# Altium schematic symbol library 声源跟踪小车原理图库.SCHLIB: 29 symbols
Pins are listed as number, name and electrical type; pins without a type are passive.

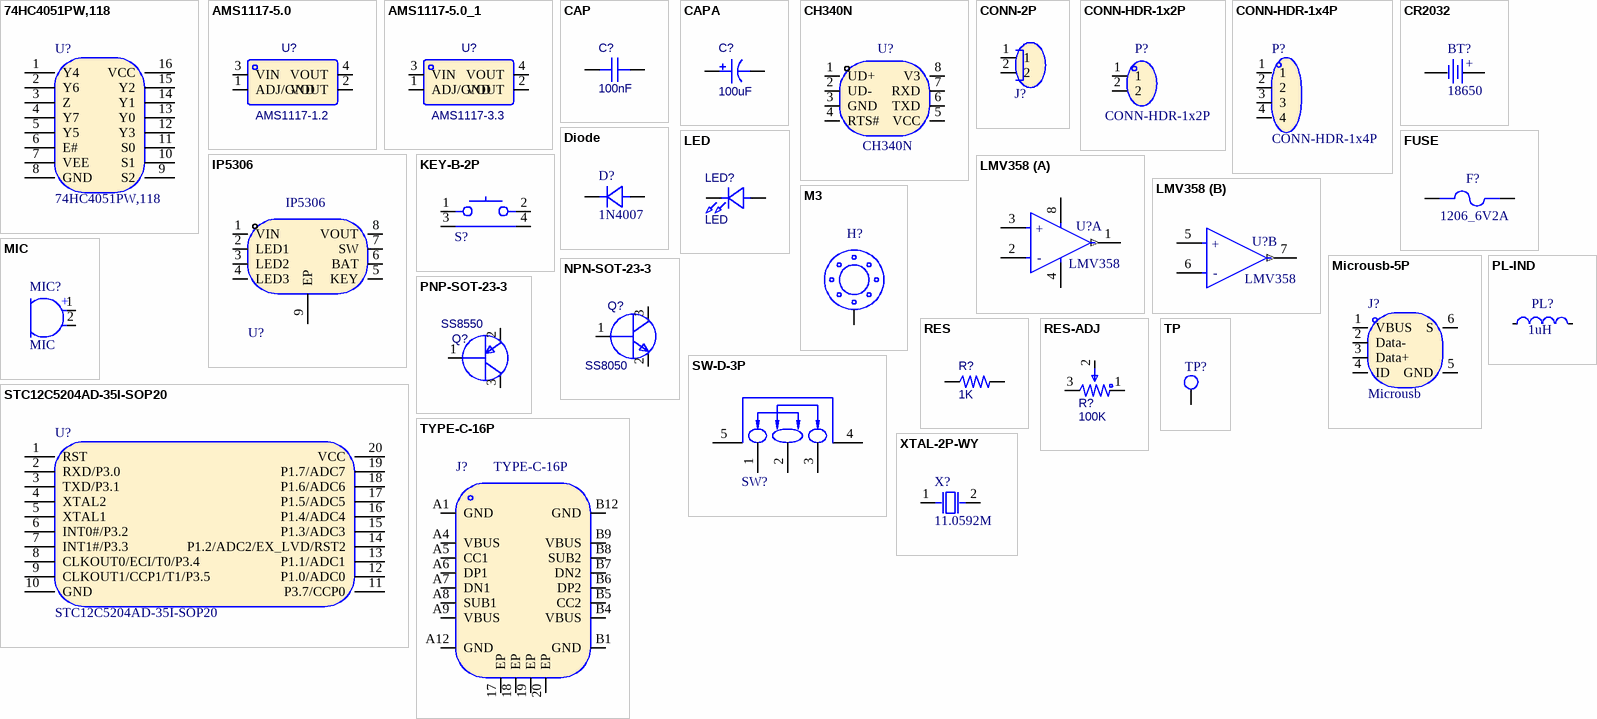
[diagram p0: symbols 74HC4051PW,118 to XTAL-2P-WY]

## 74HC4051PW,118
designator U?
复用开关IC MUX/DEMUX 8X1; Manufacturer: Nexperia(安世); Add into BOM: yes; Name: 74HC4051PW,118; Symbol: 74HC4051PW,118; Device: 74HC4051PW,118; LCSC Part Name: 74HC4051PW,118; Supplier Part: C5645; Manufacturer Part: 74HC4051PW,118; Supplier Footprint: TSSOP-16; JLCPCB Part Class: 扩展库; Datasheet: https://atta.szlcsc.com/upload/public/pdf/source/20120413/1457706470089.pdf; Supplier: LCSC; Convert to PCB: yes
footprint TSSOP-16-LP5.7-P0.65 (TSSOP-16_L5.0-W4.4-P0.65-LS6.4-BL)
pins: 1 Y4, 2 Y6, 3 Z, 4 Y7, 5 Y5, 6 E#, 7 VEE, 8 GND, 9 S2, 10 S1, 11 S0, 12 Y3, 13 Y0, 14 Y1, 15 Y2, 16 VCC

## AMS1117-5.0
designator U?, comment AMS1117-1.2
稳压器芯片; BOM_Manufacturer: JSMSEMI(杰盛微); BOM_Manufacturer Part: AMS1117-5.0; Contributor: LCSC; BOM_Supplier: LCSC; BOM_Supplier Part: C2718490; BOM_JLCPCB Part Class: Extended Part; spicePre: U; spiceSymbolName: AMS1117-5.0_C2718490
footprint SOT-223-4-LP5.7-P2.3 (SOT-223-4_L6.5-W3.5-P2.30-LS7.0-BR)
pins: 1 ADJ/GND, 2 VOUT, 3 VIN, 4 VOUT

## AMS1117-5.0_1
designator U?, comment AMS1117-3.3
稳压器芯片; BOM_Manufacturer: JSMSEMI(杰盛微); BOM_Manufacturer Part: AMS1117-5.0; Contributor: LCSC; BOM_Supplier: LCSC; BOM_Supplier Part: C2718490; BOM_JLCPCB Part Class: Extended Part; spicePre: U; spiceSymbolName: AMS1117-5.0_C2718490
footprint SOT-223-4-LP5.7-P2.3 (SOT-223-4_L6.5-W3.5-P2.30-LS7.0-BR)
pins: 1 ADJ/GND, 2 VOUT, 3 VIN, 4 VOUT

## CAP
designator C?, comment 100nF
贴片电容; BOM_Manufacturer: SAMSUNG; BOM_Manufacturer Part: CL03A104KQ3NNNC; nameAlias: Capacitance; Contributor: LCSC; BOM_Supplier: LCSC; BOM_Supplier Part: C160831; BOM_JLCPCB Part Class: Extended Part; spicePre: C; spiceSymbolName: CL03A104KQ3NNNC
footprint CAP-SMD-0603 (贴片电容0603)
pins: 1, 2

## CAPA
designator C?, comment 100uF
电解电容; BOM_Manufacturer: ValuePro; BOM_Manufacturer Part: 普通黑色470UF 50V; nameAlias: Capacitance; BOM_Supplier: LCSC; BOM_Supplier Part: C34642; BOM_JLCPCB Part Class: Extended Part; spicePre: C; spiceSymbolName: 470UF 50V
footprint CAPA-TH-5020-P2.0 (插件电解电容CAP-TH_BD5.0-P2.00-D0.8-FD)
pins: 1, 2

## CH340N
designator U?
Manufacturer: WCH(南京沁恒); Symbol: CH340N_C2977777; Add into BOM: yes; Name: CH340N; Device: CH340N; LCSC Part Name: CH340N; Supplier Part: C2977777; Manufacturer Part: CH340N; Supplier Footprint: SOP-8; JLCPCB Part Class: 扩展库; Datasheet: https://atta.szlcsc.com/upload/public/pdf/source/20220223/82A45E4FF89B3EDCAD50B354450A7EF4.pdf; Supplier: LCSC; Convert to PCB: yes
3D model SOP-8_L4.9-W3.9-P1.27-LS6.0-BL-1
footprint SOP-8-LP5.3-P1.27 (SOP-8_L4.9-W3.9-P1.27-LS6.0-BL)
pins: 1 UD+, 2 UD-, 3 GND, 4 RTS#, 5 VCC, 6 TXD, 7 RXD, 8 V3

## CONN-2P
designator J?  (value not drawn)
连接插座2pin; Manufacturer: KEFA(科发); Symbol: KF301-5.0-2P; Add into BOM: yes; Pitch: 5mm; Number of PINs Per Row: 2; Current Rating (Max): 17A; Voltage Rating (Max): 250V; Wire Gauge - AWG: 14~22; Wire Gauge - mm?: 1.5; Device: KF301-5.0-2P; LCSC Part Name: 5mm 排数:1 每排P数:2 直针 可拼接 铜 环保; Supplier Part: C474881; Manufacturer Part: KF301-5.0-2P; Supplier Footprint: P=5mm; JLCPCB Part Class: Extended Part; Datasheet: https://atta.szlcsc.com/upload/public/pdf/source/20200115/C474881_883EFE2003339C40FD1BEEEFC9A18423.pdf; Supplier: LCSC; Convert to PCB: yes; Number of Rows: 1; Mounting Style: 直针; Operating Temperature Range: -30~+120; Color: 蓝色
footprint CONN-TH-CDS-1x2P-P2.54 (CONN-TH_2P-P2.54_CDS-2P)
pins: 1, 2

## CONN-HDR-1x2P
designator P?
排针1*2pin; Manufacturer: kinghelm(金航标); Symbol: KH-2.54PH180-1X2P-L11.5; Add into BOM: yes; Pitch: 2.54mm; Pin Structure: 1x2P; Circluar Pins/Square Pins: 方针; Current Rating (Max): 3A; Device: KH-2.54PH180-1X2P-L11.5; LCSC Part Name: 2.54mm 1x2P; Supplier Part: C2905434; Manufacturer Part: KH-2.54PH180-1X2P-L11.5; Supplier Footprint: 插件,P=2.54mm; JLCPCB Part Class: Extended Part; Datasheet: https://atta.szlcsc.com/upload/public/pdf/source/20211019/75EAF9E0823F75B5BB441C07BAE9F5E6.pdf; Supplier: LCSC; Convert to PCB: yes; Number of Pins: 2; Number of Rows: 1; Row Spacing: -; Mounting Type: 直插; Voltage Rating (Max): -; Length of Mating Pin: 6mm; Insulation Height: 2.5mm; Length of End Connection Pin: 3mm; Contact Material: -; Operating Temperature Range: -40~+105; Color: 黑色
footprint CONN-TH-1X2P-P2.54 (HDR-TH_2P-P2.54-V-M)
pins: 1, 2

## CONN-HDR-1x4P
designator P?
排针1*4pin; Manufacturer: Wcon(维峰电子); Symbol: 1125-1104G0S116C001; Add into BOM: yes; Pitch: 2.54mm; Pin Structure: 1x4P; Circluar Pins/Square Pins: 方针; Current Rating (Max): 3A; Voltage Rating (Max): 320V; Device: 1125-1104G0S116C001; LCSC Part Name: 2.54mm 1x4P; Supplier Part: C920779; Manufacturer Part: 1125-1104G0S116C001; Supplier Footprint: 插件,P=2.54mm; JLCPCB Part Class: Extended Part; Datasheet: https://atta.szlcsc.com/upload/public/pdf/source/20210514/C920781_63E6ED3EFA6284A9B57E07350A5F58E4.pdf; Supplier: LCSC; Convert to PCB: yes; Number of Pins: 4; Number of Rows: 1; Row Spacing: 2.54mm; Mounting Type: 直插; Length of Mating Pin: 6.1mm; Insulation Height: 2.5mm; Length of End Connection Pin: 3mm; Contact Material: 黄铜; Contact Plating: 金; Operating Temperature Range: -40~+105; Color: 黑色
footprint CONN-TH-1X4P-P2.54 (HDR-TH_4P-P2.54-V-M-1)
pins: 1, 2, 3, 4

## CR2032
designator BT?, comment 18650
纽扣电池CR2032-BS-6-1; Manufacturer: Q&J; Add into BOM: yes; Connector Type: 电池底座; Battery Type: CR2032; Symbol: CR2032-BS-6-1; Device: CR2032-BS-6-1; LCSC Part Name: 电池底座 适用电池:CR2032; Supplier Part: C70377; Manufacturer Part: CR2032-BS-6-1; Supplier Footprint: SMD; JLCPCB Part Class: Extended Part; Datasheet: https://atta.szlcsc.com/upload/public/pdf/source/20160427/1461725216549.pdf; Supplier: LCSC; Convert to PCB: yes; Operating Temperature Range: -
footprint BAT-SMD-18650 (BATTERY-SMD_18650-1S-L77.1-W20.7-1)
pins: 1 -, 2 +

## Diode
designator D?, comment 1N4007
二极管1N4148W; Manufacturer: PSI(宝力芯); Symbol: 1N4148W_C2840890; Add into BOM: yes; Power Dissipation: 350mW; Reverse Voltage (Vr): 100V; Average Rectified Current (Io): 150mA; Forward Voltage (Vf@If): 1.25V@150mA; Reverse Leakage Current: 1A@75V; Reverse Recovery Time (trr): 4ns; Device: 1N4148W; LCSC Part Name: 100V 150mA 4ns; Supplier Part: C2840890; Manufacturer Part: 1N4148W; Supplier Footprint: SOD-123; JLCPCB Part Class: Extended Part; Datasheet: https://atta.szlcsc.com/upload/public/pdf/source/20210709/C2840890_3AF002B6505A4091F26B54E36362ABEF.pdf; Supplier: LCSC; Convert to PCB: yes; Diode Configuration: -; Operating Temperature: +150@(Tj)
footprint SOD-123-P3.4 (SOD-123_L2.7-W1.6-LS3.7-RD-1)
pins: 1 K, 2 A

## FUSE
designator F?, comment 1206_6V2A
自恢复保险管FUSE-BSMD0402L-010; Manufacturer: BHFUSE(佰宏); Add into BOM: yes; Operating Voltage (Max): 6V; Current Rating (Max): 40A; Hold Current: 100mA; Trip Current: 300mA; Power Dissipation: 500mW; Resistance - Initial (Ri) (Min): 150mΩ; Resistance - Post Trip (R1) (Max): 2Ω; Maximum Time to Trip: 1s; Symbol: BSMD0402L-010; Device: BSMD0402L-010; LCSC Part Name: 0.1A 6V; Supplier Part: C960018; Manufacturer Part: BSMD0402L-010; Supplier Footprint: 0402; JLCPCB Part Class: Extended Part; Datasheet: https://atta.szlcsc.com/upload/public/pdf/source/20220302/D90AC0C54F89B8161447F1516DD9C303.pdf; Supplier: LCSC; Convert to PCB: yes; Operating Temperature: -40~+85
footprint FUSE-SMD-1206 (自恢复保险管FUSE1206)
pins: 1, 2

## IP5306
designator U?
充电电池的类型:-;电池单元组数:-;最大充电电流:-;充满的电池组电压:-;最大供应电压:-;; Manufacturer: INJOINIC(英集芯); Add into BOM: yes; Name: IP5306; Symbol: IP5306; Device: IP5306; LCSC Part Name: IP5306; Supplier Part: C181692; Manufacturer Part: IP5306; Supplier Footprint: ESOP-8; JLCPCB Part Class: 扩展库; Datasheet: https://atta.szlcsc.com/upload/public/pdf/source/20180920/C181692_842C9BF636DF123BB66E91FC1AD6F13F.pdf; Supplier: LCSC; Convert to PCB: yes; Battery Chemistry: -; Number of Cells: -; Charge Current - Max: -; Battery Pack Voltage: -; Voltage - Supply (Max): -; Interface: -
3D model ESOP-8_L4.9-W3.9-H1.6-LS6.0-P1.27
footprint ESOP-8-LP5.3-P1.27 (ESOP-8_L4.9-W3.9-P1.27-LS6.0-BL-EP)
pins: 1 VIN, 2 LED1, 3 LED2, 4 LED3, 5 KEY, 6 BAT, 7 SW, 8 VOUT, 9 EP

## KEY-B-2P
designator S?  (value not drawn)
按键开关B; Manufacturer: C&K; Symbol: PTS645VL83LFS; Add into BOM: yes; Device: PTS645VL83LFS; LCSC Part Name: 轻触开关; Supplier Part: C918856; Manufacturer Part: PTS645VL83LFS; Supplier Footprint: 插件; JLCPCB Part Class: Extended Part; Datasheet: https://atta.szlcsc.com/upload/public/pdf/source/20200930/C879394_D7DA174BB86F37E4F50AF53F8B4AE402.pdf; Supplier: LCSC; Convert to PCB: yes
footprint KEY-TH-B-2P (KEY-TH_PTS645VXX83XLFS)
pins: 1, 2, 3, 4

## LED
designator LED?
LED灯,发光二极管; BOM_Manufacturer: yongyu(永裕光电); BOM_Manufacturer Part: SZYY0402B; Contributor: LCSC; BOM_Supplier: LCSC; BOM_Supplier Part: C434447; spicePre: L; spiceSymbolName: SZYY0402B
footprint LED-SMD-0805 (贴片LED灯0805)
pins: 1 A, 2 K

## LMV358
designator U?
运放IC OPAMP GP 2 CIRCUIT 8SOIC
footprint SOIC-8-LP5.5-P1.27 (SOIC-8_L4.9-W3.9-P1.27-LS6.0-BL)
part A pins: 1 OUT (out), 2 1IN- (hiz), 3 1IN+ (hiz), 4 GND (power), 8 VCC+ (power)
part B pins: 5 1IN+ (hiz), 6 1IN- (hiz), 7 OUT (out)
part A text: +; -
part B text: +; -

## M3
designator H?  (value not drawn)
M3螺丝孔
footprint M3-5030-0.3 (M3螺丝孔)
pins: 1

## MIC
designator MIC?
咪头MIC COND ANALOG OMNI -38DB
footprint MIC-TH-BD4.0-P1.4 (MIC-TH_BD4.0-P1.4-D0.4-L-FD)
pins: 1 A, 2 C
text: +

## Microusb-5P
designator J?, comment Microusb
安卓阶梯型USB接口; Manufacturer: Amphenol; Symbol: 10118194-0001LF; Add into BOM: yes; Connector Type: Micro-B; Gender: 母座; Number of Contacts: 5; Number of Ports: 1; Device: 10118194-0001LF; LCSC Part Name: Micro-B 母座; Supplier Part: C132563; Manufacturer Part: 10118194-0001LF; Supplier Footprint: SMD; JLCPCB Part Class: Extended Part; Datasheet: https://atta.szlcsc.com/upload/public/pdf/source/20210630/C132563_323781699BE9D7BFAD8DF70EA5820798.pdf; Supplier: LCSC; Convert to PCB: yes; Standard: USB 2.0
footprint Microusb-SMD-5P (MICRO-USB-5pin)
pins: 1 VBUS, 2 Data-, 3 Data+, 4 ID, 5 GND, 6 S

## NPN-SOT-23-3
designator Q?, comment SS8050
贴片NPN三极管; BOM_Manufacturer: YFW佑风微; BOM_Manufacturer Part: S9013; Contributor: LCSC; BOM_Supplier: LCSC; BOM_Supplier Part: C2898668; BOM_JLCPCB Part Class: Extended Part; spicePre: Q; spiceSymbolName: S9013_C2898668
footprint SOT-23-3-LP2.28-P1.91 (SOT-23-3_L2.9-W1.4-P1.91-LS2.6-BR)
pins: 1 B, 2 E, 3 C

## PL-IND
designator PL?, comment 1uH
电感; Manufacturer: Sunlord(顺络); Symbol: GZ1608D121TF-C12391; Device: GZ1608D121TF; Add into BOM: yes; Impedance @ Frequency: 120Ω@100MHz; Tolerance: ±25%; DC Resistance: 200mΩ; Current Rating: 300mA; Circuits: 1; LCSC Part Name: 120Ω@100MHz ±25%; Supplier Part: C12391; Manufacturer Part: GZ1608D121TF; Supplier Footprint: 0603; JLCPCB Part Class: Extended Part; Datasheet: https://atta.szlcsc.com/upload/public/pdf/source/20210830/355EA7C0FAC5394FC0FE3F17C770C20A.pdf; Supplier: LCSC; Convert to PCB: yes
footprint PL-SMD_4.4X4.2-P3.7 (IND-SMD_L4.4-W4.2_YXMAA0412)
pins: 1, 2

## PNP-SOT-23-3
designator Q?, comment SS8550
贴片PNP三极管; BOM_Manufacturer: YONGYUTAI(永裕泰); BOM_Manufacturer Part: S9012; Contributor: LCSC; BOM_Supplier: LCSC; BOM_Supplier Part: C2891799; BOM_JLCPCB Part Class: Extended Part; spicePre: Q; spiceSymbolName: S9012_C2891799
footprint SOT-23-3-LP2.28-P1.91 (SOT-23-3_L2.9-W1.4-P1.91-LS2.6-BR)
pins: 1 B, 2 E, 3 C

## RES
designator R?, comment 1K
贴片电阻; BOM_Manufacturer: Chengdu Guosheng Tech; BOM_Manufacturer Part: 3362P-1-104; Resistance(Ohms): 100K; nameAlias: Resistance; Contributor: LCSC; BOM_Supplier: LCSC; BOM_Supplier Part: C118966; Resistance (Ohms): 100K; BOM_JLCPCB Part Class: Extended Part; spicePre: R; spiceSymbolName: 3362P-1-104_C118966
footprint RES-SMD-0603 (贴片电阻0603)
pins: 1, 2

## RES-ADJ
designator R?, comment 100K
可调电阻,电位器; BOM_Manufacturer: Chengdu Guosheng Tech; BOM_Manufacturer Part: 3362P-1-104; nameAlias: Resistance; Contributor: LCSC; BOM_Supplier: LCSC; BOM_Supplier Part: C118966; Resistance(Ohms): 100K; Resistance (Ohms): 100K; BOM_JLCPCB Part Class: Extended Part; spicePre: R; spiceSymbolName: 3362P-1-104_C118966
footprint RES-SMD-ADJ-3224W (RES-ADJ-SMD_3224W)
pins: 1, 2, 3

## STC12C5204AD-35I-SOP20
designator U?
CPU内核:51系列;CPU最大主频:35MHz;工作电压范围:4V~5.5V;内部振荡器:有;外部时钟频率范围:-;程序 FLASH容量:4KB;RAM总容量:256Byte;EEPROM/数据 FLASH容量:1KB;GPIO端口数量:15;ADC(单元数/通道数/位数):1@x8ch/8bit;DAC(单元数/通道数/位数):-;(E)PWM(单元数/通道数/位数):-;8位Timer数量:-;16位Timer数量:2;32位Timer数量:-;内部比较器数量:-;U(S)ART路数:1;I2C路数; Manufacturer: STC(宏晶); Add into BOM: yes; CPU Core: 51系列; Maximum Frequency: 35MHz; Internal Oscillator: 有; Program FLASH Size: 4KB; EEPROM/Data FLASH Size: 1KB; GPIO Ports Number: 15; 16Bit Timer Number: 2; U(S)ART Number: 1; Peripherals / Functions / Protocol Stacks: 低电压检测；看门狗；CCP捕获/比较; Name: STC12C5204AD-35I-SOP20; Symbol: STC12C5204AD-35I; Device: STC12C5204AD-35I-SOP20; LCSC Part Name: STC12C5204AD-35I-SOP20; Supplier Part: C8703; Manufacturer Part: STC12C5204AD-35I-SOP20; Supplier Footprint: SOIC-20_300mil; JLCPCB Part Class: 扩展库; Datasheet: https://atta.szlcsc.com/upload/public/pdf/source/20120808/1457706523764.pdf; Supplier: LCSC; Convert to PCB: yes; Supply Voltage Range: 4V~5.5V; External Clock Frequency Rang: -; RAM Size: 256Byte; ADC (Units/Channels/bits): 1@x8ch/8bit; DAC (Units/Channels/bits): -; (E)PWM (Units/Channels/bits): -; 8Bit Timer Number: -; 32Bit Timer Number: -; CMP Number: -; I2C Number: -; I2S Number: -; (Q)SPI Number: -; CAN Number: -; USB (H/D/OTG): -; Operating Temperature Range: -40~+85
footprint SOIC-20-LP9.5-P1.27 (SOIC-20_L13.0-W7.6-P1.27-LS10.3-BL)
pins: 1 RST, 2 RXD/P3.0, 3 TXD/P3.1, 4 XTAL2, 5 XTAL1, 6 INT0#/P3.2, 7 INT1#/P3.3, 8 CLKOUT0/ECI/T0/P3.4, 9 CLKOUT1/CCP1/T1/P3.5, 10 GND, 11 P3.7/CCP0, 12 P1.0/ADC0, 13 P1.1/ADC1, 14 P1.2/ADC2/EX_LVD/RST2, 15 P1.3/ADC3, 16 P1.4/ADC4, 17 P1.5/ADC5, 18 P1.6/ADC6, 19 P1.7/ADC7, 20 VCC

## SW-D-3P
designator SW?, comment SS-12D11G5  (value not drawn)
额定电流(DC)：3A 额定电压(DC)：125V 额定电流(AC)：3A 额定电压(AC)：125V; Manufacturer: XKB Connectivity(中国星坤); Add into BOM: yes; Current Rating (DC): 3A; Voltage Rating (DC): 125V; Circuit: 单刀双掷; Mechanical Life: 10000; Actuator Color: 黑色; Actuator Style: 矩形柱状; Pin Style: PC引脚; Switch Length: 13.5mm; Switch Width: 6.6mm; Switch Height: 6.3mm; Name: SS-12D11G5; Symbol: SS-12D11G5; Device: SS-12D11G5; LCSC Part Name: SS-12D11G5; Supplier Part: C692484; Manufacturer Part: SS-12D11G5; Supplier Footprint: 插件; JLCPCB Part Class: 扩展库; Datasheet: https://atta.szlcsc.com/upload/public/pdf/source/20211009/84F89DEF741E27E9E55DE4039DC07CAD.pdf; Supplier: LCSC; Convert to PCB: yes; Current Rating (AC): 3A; Voltage Rating (AC): 125V; Mounting Style: 弯插; Operating Temperature: -40~+85
footprint SW-TH-D-P4.8 (SW-TH_SS-12D11G5)
pins: 1, 2, 3, 4, 5

## TP
designator TP?  (value not drawn)
TP测试点
footprint TP (TP测试点)
pins: 1

## TYPE-C-16P
designator J?
TYPE-C-16pin; Manufacturer: kinghelm(金航标); Symbol: KH-TYPE-C-16P; Add into BOM: yes; Connector Type: Type-C; Gender: 母座; Number of Contacts: 16; Number of Ports: 1; Current Rating - Power (Max): 3A; Device: KH-TYPE-C-16P; LCSC Part Name: Type-C 母座 卧贴; Supplier Part: C709357; Manufacturer Part: KH-TYPE-C-16P; Supplier Footprint: SMD; JLCPCB Part Class: Extended Part; Datasheet: https://atta.szlcsc.com/upload/public/pdf/source/20200911/C709357_AA8DCEB38BB20E3035A7ED7AE7667837.pdf; Supplier: LCSC; Convert to PCB: yes; Standard: -; Mounting Style: 卧贴; Operating Temperature Range: -40~+85
footprint TYPE-C-SMD-16P (USB-C-SMD_KH-TYPE-C-16P)
pins: 17 EP, 18 EP, 19 EP, 20 EP, A1 GND, A4 VBUS, A5 CC1, A6 DP1, A7 DN1, A8 SUB1, A9 VBUS, A12 GND, B1 GND, B4 VBUS, B5 CC2, B6 DP2, B7 DN2, B8 SUB2, B9 VBUS, B12 GND

## XTAL-2P-WY
designator X?, comment 11.0592M
无源晶振2pin; Manufacturer: YXC扬兴科技; Symbol: X49SM16MSD2SI; Add into BOM: yes; Crystal Type: 49SMD; Frequency Tolerance: ±20ppm; Frequency Stability: ±30ppm; Load Capacitance: 20pF; Equivalent Series Resistance (ESR): 40Ω; Device: X49SM16MSD2SI; LCSC Part Name: 16MHz ±20ppm 20pF; Supplier Part: C90678; Manufacturer Part: X49SM16MSD2SI; Supplier Footprint: HC-49S/SMD; JLCPCB Part Class: Extended Part; Datasheet: https://atta.szlcsc.com/upload/public/pdf/source/20210329/C106809_0E91E60850A780B284B63D653DC40EA4.pdf; Supplier: LCSC; Convert to PCB: yes; Operating Temperature: -40~+85
footprint OSC-5032-SMD-2P (OSC-SMD_L5.0-W3.2)
pins: 1 OSC1, 2 OSC2